# Altium footprint library DF201607111.PcbLib: 111 footprints (part 7 of 7)
Each footprint in its own frame and in the unit in brackets; x right, y up, seen from the top. Pads: shape width x height; smd on the part's side, far side on the other; paste and mask are expansions set on the pad; w line width, h text height; cw(c..) or ccw(c..) is an arc to the next point about the centre after c.
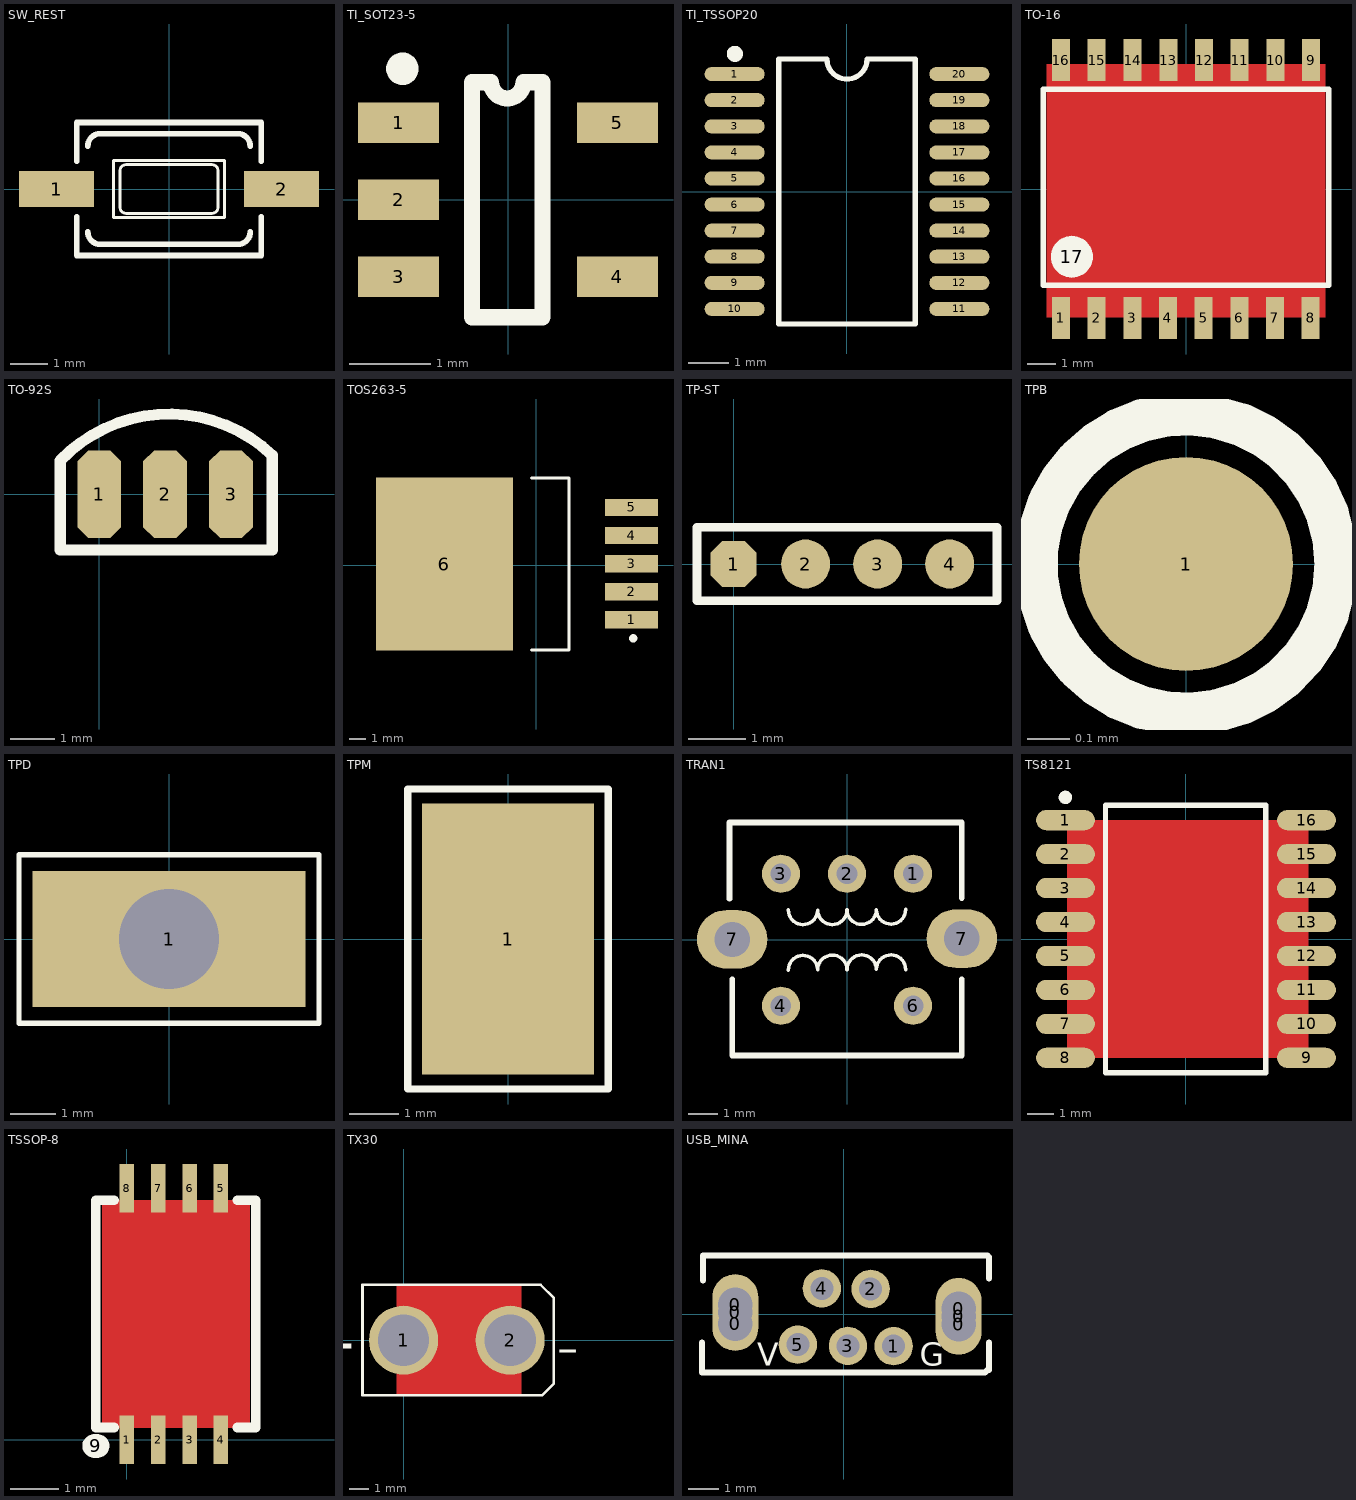
[diagram p6: the footprints below, top view; thin cyan lines are the x and y axes]

## SW_REST [mil]
pads (2):
  rect 80x38 smd: 1(-120,0) 2(120,0)
Top Overlay:
  lines w3: -59.06,-30.32 59.06,-30.32 59.06,30.32 -59.06,30.32 -59.06,-30.32 ; -52.36,-19.29 ccw(c-45.67,-19.29) -45.67,-25.98 45.67,-25.98 ccw(c45.67,-19.29) 52.36,-19.29 52.36,19.29 ccw(c45.67,19.29) 45.67,25.98 -45.67,25.98 ccw(c-45.67,19.29) -52.36,19.29 -52.36,-19.29
  lines w6: -98.43,-29.69 -98.43,-70.87 98.43,-70.87 98.43,-29.69 ; -98.43,29.69 -98.43,70.87 98.43,70.87 98.43,29.69 ; -86.61,-45.67 ccw(c-73.22,-45.67) -73.23,-59.06 73.23,-59.06 ccw(c73.22,-45.67) 86.61,-45.67 ; -86.61,45.67 cw(c-73.22,45.67) -73.23,59.06 73.23,59.06 cw(c73.22,45.67) 86.61,45.67

## TI_SOT23-5 [mm]
height 1.3
pads (5):
  rect 1x0.5 smd: 1(-1.35,0.95) 2(-1.35,0) 3(-1.35,-0.95) 4(1.35,-0.95) 5(1.35,0.95)
Top Overlay:
  circle w0.2: c-1.303,1.616 r0.1
  lines w0.2: -0.445,-1.45 0.425,-1.45 0.425,1.45 0.19,1.45 cw(c-0.01,1.45) -0.21,1.45 -0.445,1.45 -0.445,-1.45

## TI_TSSOP20 [mm] "TSOP, 20-Leads, Body 6.5x4.4mm, Pitch 0.65mm, IPC High Density"
height 1.2
pads (20):
  oval 1.5x0.35 smd: 1(-2.8,2.925) 2(-2.8,2.275) 3(-2.8,1.625) 4(-2.8,0.975) 5(-2.8,0.325) 6(-2.8,-0.325) 7(-2.8,-0.975) 8(-2.8,-1.625) 9(-2.8,-2.275) 10(-2.8,-2.925) 11(2.8,-2.925) 12(2.8,-2.275) 13(2.8,-1.625) 14(2.8,-0.975) 15(2.8,-0.325) 16(2.8,0.325) 17(2.8,0.975) 18(2.8,1.625) 19(2.8,2.275) 20(2.8,2.925)
Top Overlay:
  circle w0.2: c-2.794,3.429 r0.1
  lines w0.13: -1.7,-3.3 1.7,-3.3 1.7,3.3 0.5,3.3 cw(c0,3.3) -0.5,3.3 -1.7,3.3 -1.7,-3.3

## TO-16 [mm]
pads (17):
  rect 0.64x1.5 smd: 1(-4.453,-4.591) 2(-3.183,-4.591) 3(-1.913,-4.591) 4(-0.643,-4.591) 5(0.627,-4.591) 6(1.897,-4.591) 7(3.167,-4.591) 8(4.437,-4.591) 9(4.453,4.591) 10(3.183,4.591) 11(1.913,4.591) 12(0.643,4.591) 13(-0.627,4.591) 14(-1.897,4.591) 15(-3.183,4.591) 16(-4.453,4.589)
  round 1.5 on Top Overlay: 17(-4.064,-2.413)
Top Layer:
  pour cut-out: -4.953,4.445 4.953,4.445 4.953,-4.572 -4.953,-4.572
Top Overlay:
  lines w0.2: -5.08,-3.429 5.08,-3.429 5.08,3.556 -5.08,3.556 -5.08,-3.429

## TO-92S [mm]
pads (3):
  oct 1x2 smd: 1(0,0) 2(1.5,0) 3(3,0)
Top Overlay:
  lines w0.254: -0.889,0.254 -0.889,0.762 cw(c1.587,-1.587) 3.937,0.889 3.937,0.508 ; -0.889,0.508 -0.889,-1.27 3.937,-1.27 3.937,0.635

## TOS263-5 [mm]
pads (6):
  rect 3.2x1.05 smd: 1(5.766,-3.302) 2(5.766,-1.602) 3(5.766,0.098) 4(5.766,1.798) 5(5.766,3.498)
  rect 8.3x10.45 smd: 6(-5.558,0.076)
Top Overlay:
  circle w0.25: c5.867,-4.42 r0.125
  lines w0.2: -0.272,-5.124 1.978,-5.124 1.978,5.276 -0.272,5.276

## TP-ST [mm]
pads (4):
  oct 0.8x0.8 smd: 1(0,0)
  round 0.85 smd: 2(1.25,0) 3(2.5,0) 4(3.75,0)
Top Overlay:
  lines w0.15: -0.635,-0.635 -0.635,0.635 4.572,0.635 4.572,-0.635 -0.635,-0.635

## TPB [mm]
height 0.8
pads (1):
  round 0.5 smd: 1(0,0)
Top Overlay:
  circle w0.1: c0,0 r0.35

## TPD [mm]
height 1.3
pads (1):
  rect 6x3 hole 2.2: 1(0,0)
Top Overlay:
  lines w0.12: -3.3,-1.85 3.3,-1.85 3.3,1.85 -3.3,1.85 -3.3,-1.85

## TPM [mm]
pads (1):
  rect 3.5x5.5 smd: 1(0,0)
Top Overlay:
  lines w0.15: -2.04,-3.048 2.04,-3.048 2.04,3.048 -2.04,3.048 -2.04,-3.048

## TRAN1 [mm]
height 1.3
pads (7):
  round 1.3 hole 0.7: 1(2.25,2.25) 2(0,2.25) 3(-2.25,2.25) 4(-2.25,-2.25) 6(2.25,-2.25)
  oval 2.4x2 hole 1.2: 7(-3.912,0.013) 7(3.912,0.038)
Top Overlay:
  lines w0.12: -2,-1.033 cw(c-1.5,-1.033) -1,-1.024 cw(c-0.5,-1.024) 0,-1.016 cw(c0.5,-1.016) 1,-1.008 cw(c1.5,-1.016) 2,-1.016 ; -2,1.016 ccw(c-1.5,1.016) -1,1.008 ccw(c-0.5,1.016) 0,1.016 ccw(c0.5,1.024) 1,1.024 ccw(c1.5,1.033) 2,1.033
  lines w0.2: -4,1.397 -4,4 3.912,4 3.912,1.422 ; -3.912,-1.346 -3.912,-3.949 3.912,-3.949 3.912,-1.346

## TS8121 [mm]
pads (16):
  oval 2.2x0.76 smd: 1(-4.508,4.445) 2(-4.508,3.175) 3(-4.508,1.905) 4(-4.508,0.635) 5(-4.508,-0.635) 6(-4.508,-1.905) 7(-4.508,-3.175) 8(-4.508,-4.445) 9(4.508,-4.445) 10(4.508,-3.175) 11(4.508,-1.905) 12(4.508,-0.635) 13(4.508,0.635) 14(4.508,1.905) 15(4.508,3.175) 16(4.508,4.445)
Top Layer:
  pour cut-out: -4.445,4.445 -4.445,-4.445 4.572,-4.445 4.572,4.445
Top Overlay:
  circle w0.25: c-4.508,5.295 r0.125
  lines w0.2: -3.009,-5 -3.009,5 2.984,5 2.984,-5 -3.009,-5

## TSSOP-8 [mm]
pads (9):
  rect 0.3x1 smd: 1(0,0) 2(0.65,0) 3(1.3,0) 4(1.95,0) 5(1.95,5.2) 6(1.3,5.2) 7(0.65,5.2) 8(0,5.2)
  oval 0.56x0.5 on Top Overlay: 9(-0.635,-0.127)
Top Layer:
  pour cut-out: -0.508,4.953 2.54,4.953 2.54,0.254 -0.508,0.254
Top Overlay:
  lines w0.2: -0.254,0.254 -0.635,0.254 -0.635,4.953 -0.254,4.953 ; 2.286,0.254 2.667,0.254 2.667,4.953 2.286,4.953

## TX30 [mm]
pads (2):
  round 3.5 hole 2.6: 1(0,0) 2(5.4,0)
Top Layer:
  pour cut-out: -0.313,2.781 -0.339,2.756 -0.339,-2.807 5.935,-2.807 5.961,-2.781 5.961,2.794
Top Overlay:
  lines w0.13: -2.084,2.807 6.951,2.807 7.62,2.138 7.62,-2.189 7.027,-2.781 -2.078,-2.781 -2.078,2.819
  text "+" at -2.307,1.46 h4
  text "-" at 8.89,1.016 h4

## USB_MINA [mil]
pads (11):
  round 50 hole 45: 0(-141.62,-12.59) 0(-141.62,12.34) 0(149.62,-13.22) 0(149.62,7.09)
  oval 60x100 hole 45: 0(-141.62,2.28) 0(149.62,-2.72)
  round 50 hole 30: 1(64.94,-41.66) 2(34.94,33.03) 3(5.25,-41.34) 4(-28.81,33.66) 5(-60.06,-39.78)
Top Overlay:
  lines w7.87: -184.94,-36.72 -184.94,-75.72 184.06,-75.72 187.06,-72.72 189.06,-72.72 189.06,-36.72 ; -183.94,44.28 -183.94,76.28 187.06,76.28 189.06,74.28 189.06,46.28
  text "V" at -113,-67 h30
  text "G" at 99,-67 h30